# Altium schematic symbol library TRANS-NPN.SCHLIB: 1 symbol
Pins are listed as number, name and electrical type; pins without a type are passive.

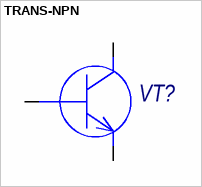
[diagram p0: symbol TRANS-NPN]

## TRANS-NPN
designator VT?
pins: 1 B, 2 E, 3 C